# EAGLE library part *1284 (library digital)
74xx1284: Digital transceiver (Fairchild) 4 bidirectional, 3 unidirectional buffers, 20ns delay
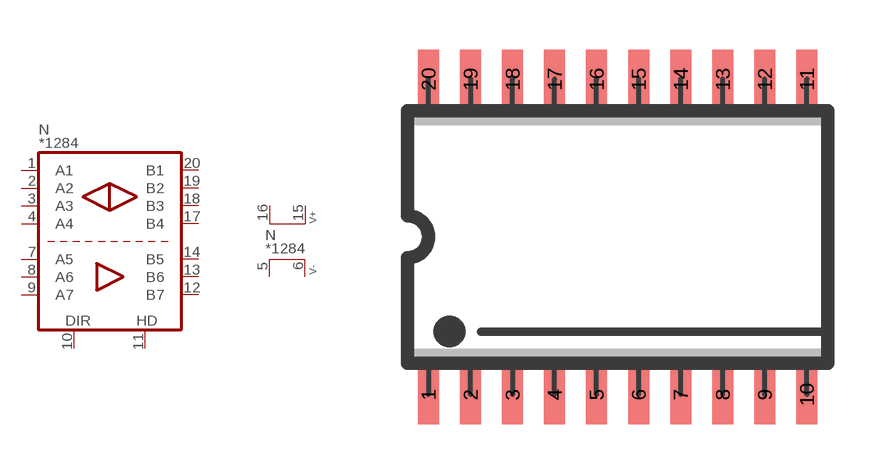
[diagram p63: symbol with the pads of SO20W; footprint SO20W]

Designator prefix N; gates G=1284 P=V2+2-C

## 74ACT1284  [SO20W]
1  G:A1
2  G:A2
3  G:A3
4  G:A4
5  P:V-  pwr
6  P:V-  pwr
7  G:A5  in
8  G:A6  in
9  G:A7  in
10  G:DIR  in
11  G:HD  in
12  G:B7  out
13  G:B6  out
14  G:B5  out
15  P:V+  pwr
16  P:V+  pwr
17  G:B4
18  G:B3
19  G:B2
20  G:B1

## 1284S  [SO20W]
Pads as for SO20W

## Footprint SO20W (pad centres in mm)
SO-20, SMD wide SOIC IC package, 20 pins, wide
smd 0.635 x 1.778: 1 -5.715,-4.763; 2 -4.445,-4.763; 3 -3.175,-4.763; 4 -1.905,-4.763; 5 -0.635,-4.763; 6 0.635,-4.763; 7 1.905,-4.763; 8 3.175,-4.763; 9 4.445,-4.763; 10 5.715,-4.763; 11 5.715,4.763; 12 4.445,4.763; 13 3.175,4.763; 14 1.905,4.763; 15 0.635,4.763; 16 -0.635,4.763; 17 -1.905,4.763; 18 -3.175,4.763; 19 -4.445,4.763; 20 -5.715,4.763